# Altium schematic symbol library SN74LVC244A.SchLib: 1 symbol
Pins are listed as number, name and electrical type; pins without a type are passive.

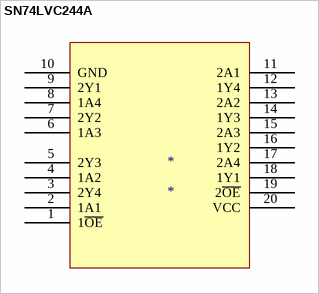
[diagram p0: symbol SN74LVC244A]

## SN74LVC244A
designator *
footprint DW (R-PDS0-G20)
pins: 1 1~{OE} , 2 1A1, 3 2Y4, 4 1A2, 5 2Y3, 6 1A3, 7 2Y2, 8 1A4, 9 2Y1, 10 GND, 11 2A1, 12 1Y4, 13 2A2, 14 1Y3, 15 2A3, 16 1Y2, 17 2A4, 18 1Y1, 19 2~{OE}, 20 VCC